# EAGLE library part AWM635RX (library airwave)
Airwave AWM 635 RX 2.4GHz Audio/Video wireless RF module contains one Receiver. Using of the most popular 2.4GHz ISM band and designed with high reliability. Airwave RF module is compliance with the criteria of FCC and R&TTE which can transmit/receive a wide band audio & video signals up to 300 feet in open area. Features: - Worldwide 2.4GHz ISM band - Use diversity antenna function to overcome the multipath fading effect. - Conform with R&TTE & FCC stipulation - Compact size and low power consumption - Highly efficient FM-FM modulation/demodulation scheme - Compatible with both NTSC and PAL video formats - Integrating Audio/Video input and output into one module baseband PCB - No external Audio circuit needed - Channel selection is four channel and default value is ch4 (not enable). Other channel can be selected by pulling low to enable.
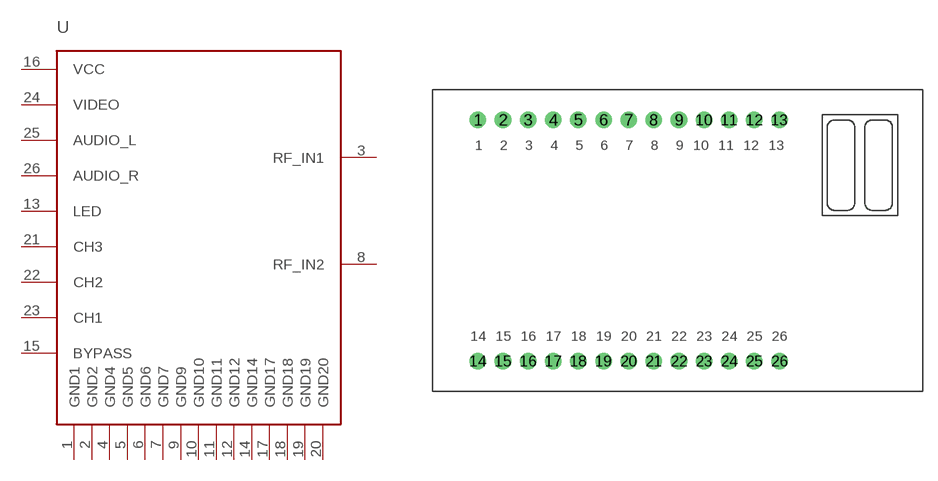
[diagram p1: symbol with the pads of AWM635RX_PACK; footprint AWM635RX_PACK]

Designator prefix -

## AWM635RX  [AWM635RX_PACK]
1  GND1  sup
2  GND2  sup
3  RF_IN1  in
4  GND4  sup
5  GND5  sup
6  GND6  sup
7  GND7  sup
8  RF_IN2  in
9  GND9  sup
10  GND10  sup
11  GND11  sup
12  GND12  sup
13  LED  out
14  GND14  sup
15  BYPASS
16  VCC  sup
17  GND17  sup
18  GND18  sup
19  GND19  sup
20  GND20  sup
21  CH3
22  CH2
23  CH1
24  VIDEO  out
25  AUDIO_L  out
26  AUDIO_R  out

## Footprint AWM635RX_PACK (pad centres in mm)
drill 1 pad 1.676 round: 1 -15.24,12.7; 2 -12.7,12.7; 3 -10.16,12.7; 4 -7.62,12.7; 5 -5.08,12.7; 6 -2.54,12.7; 7 0,12.7; 8 2.54,12.7; 9 5.08,12.7; 10 7.62,12.7; 11 10.16,12.7; 12 12.7,12.7; 13 15.24,12.7; 14 -15.24,-11.684; 15 -12.7,-11.684; 16 -10.16,-11.684; 17 -7.62,-11.684; 18 -5.08,-11.684; 19 -2.54,-11.684; 20 0,-11.684; 21 2.54,-11.684; 22 5.08,-11.684; 23 7.62,-11.684; 24 10.16,-11.684; 25 12.7,-11.684; 26 15.24,-11.684